# Altium schematic symbol library PCB_Project_SCHparts_2.SchLib: 9 symbols
Pins are listed as number, name and electrical type; pins without a type are passive.

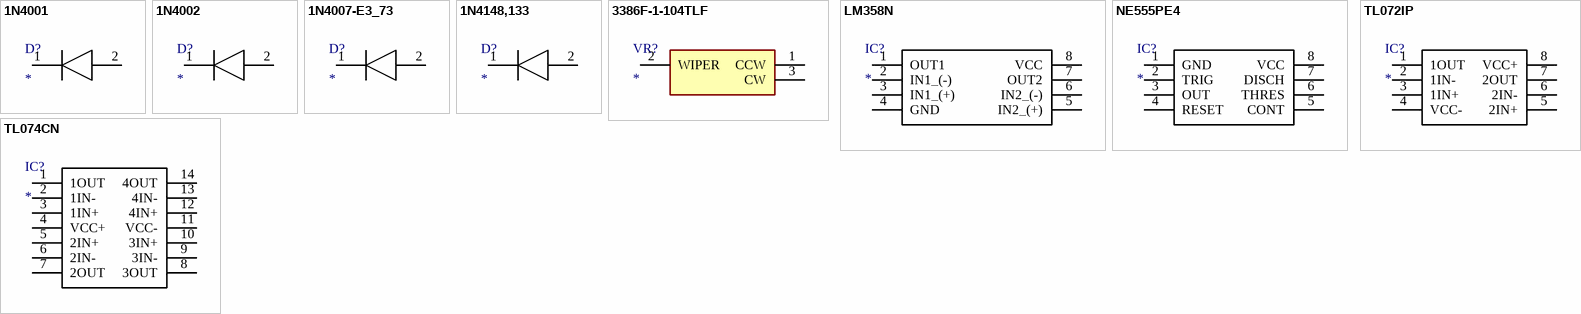
[diagram p0: symbols 1N4001 to TL074CN]

## 1N4001
designator D?
Diode; Manufacturer_Name: Vishay; Manufacturer_Part_Number: 1N4001; Datasheet Link: https://www.vishay.com/docs/88503/1n4001.pdf
footprint DIOAD1405W86L465D235
pins: 1 K, 2 A

## 1N4002
designator D?
Diode; Manufacturer_Name: DC COMPONENTS CO.; Manufacturer_Part_Number: 1N4002; Datasheet Link: https://www.tme.eu/Document/b9a3e8c499478bdb2cb9098c529c9361/1N4001_ser.pdf
footprint DIOAD1410W80L470D235
pins: 1 K, 2 A

## 1N4007-E3_73
designator D?
Diode; Manufacturer_Name: Vishay; Manufacturer_Part_Number: 1N4007-E3/73; Datasheet Link: https://mouser.componentsearchengine.com/Datasheets/2/1N4007-E3_73.pdf; Mouser Part Number: 625-1N4007-E3/73; Mouser Price/Stock: https://www.mouser.co.uk/ProductDetail/Vishay-General-Semiconductor/1N4007-E3-73?qs=N4vtoAxH%2FSqT3Ng3e4K0Gw%3D%3D; Arrow Part Number: 1N4007-E3/73; Arrow Price/Stock: https://www.arrow.com/en/products/1n4007-e373/vishay?region=europe
footprint DIOAD1405W86L465D235
pins: 1 K, 2 A

## 1N4148,133
designator D?
Diode; Manufacturer_Name: Nexperia; Manufacturer_Part_Number: 1N4148,133; Datasheet Link: https://assets.nexperia.com/documents/data-sheet/1N4148_1N4448.pdf; Mouser Part Number: 771-1N4148,133; Mouser Price/Stock: https://www.mouser.co.uk/ProductDetail/Nexperia/1N4148133?qs=elmhQ6eFu7hy8ApvpFxPZg%3D%3D; Arrow Part Number: 1N4148,133; Arrow Price/Stock: https://www.arrow.com/en/products/1n4148133/nxp-semiconductors
footprint DIOAD1165W56L425D185
pins: 1 K, 2 A

## 3386F-1-104TLF
designator VR?
Variable Resistor; Manufacturer_Name: Bourns; Manufacturer_Part_Number: 3386F-1-104TLF; Datasheet Link: https://www.bourns.com/docs/Product-Datasheets/3386.pdf; Height: 5.08mm; Mouser Part Number: 652-3386F-1-104TLF; Mouser Price/Stock: https://www.mouser.co.uk/ProductDetail/Bourns/3386F-1-104TLF?qs=jh2Y1wKDsmjfFzCYrNL%2FAQ%3D%3D; Arrow Part Number: 3386F-1-104TLF; Arrow Price/Stock: https://www.arrow.com/en/products/3386f-1-104tlf/bourns?region=nac
footprint 3386F1104TLF
pins: 1 CCW, 2 WIPER, 3 CW

## LM358N
designator IC?
Integrated Circuit; Manufacturer_Name: Texas Instruments; Manufacturer_Part_Number: LM358N; Datasheet Link: https://componentsearchengine.com/Datasheets/5/LM358N.pdf; Height: 3.93mm; Mouser Part Number: 926-LM358N; Mouser Price/Stock: https://www.mouser.co.uk/ProductDetail/Texas-Instruments/LM358N?qs=QbsRYf82W3EG2VDUre1RfQ%3D%3D
footprint DIP762W56P254L960H393Q8N
pins: 1 OUT1, 2 IN1_(-), 3 IN1_(+), 4 GND, 5 IN2_(+), 6 IN2_(-), 7 OUT2, 8 VCC

## NE555PE4
designator IC?
Integrated Circuit; Manufacturer_Name: Texas Instruments; Manufacturer_Part_Number: NE555PE4; Description: xx555 Precision Timers; Datasheet Link: http://www.ti.com/lit/ds/symlink/ne555.pdf; Height: 5.08mm; Mouser Part Number: 595-NE555PE4; Mouser Price/Stock: https://www.mouser.co.uk/ProductDetail/Texas-Instruments/NE555PE4?qs=rLYyFdxB%2FmpV6UJXAtWXuA%3D%3D; Arrow Part Number: NE555PE4; Arrow Price/Stock: https://www.arrow.com/en/products/ne555pe4/texas-instruments?region=nac
footprint DIP794W53P254L959H508Q8N
pins: 1 GND, 2 TRIG, 3 OUT, 4 RESET, 5 CONT, 6 THRES, 7 DISCH, 8 VCC

## TL072IP
designator IC?
Integrated Circuit; Manufacturer_Name: Texas Instruments; Manufacturer_Part_Number: TL072IP; Datasheet Link: http://www.ti.com/lit/ds/symlink/tl071a.pdf; Height: 5.08mm; Mouser Part Number: 595-TL072IP; Mouser Price/Stock: https://www.mouser.co.uk/ProductDetail/Texas-Instruments/TL072IP?qs=5BZzbFV4k2v7IBrcArRPQw%3D%3D; Arrow Part Number: TL072IP; Arrow Price/Stock: https://www.arrow.com/en/products/tl072ip/texas-instruments
footprint DIP794W53P254L959H508Q8N
pins: 1 1OUT, 2 1IN-, 3 1IN+, 4 VCC-, 5 2IN+, 6 2IN-, 7 2OUT, 8 VCC+

## TL074CN
designator IC?
Integrated Circuit; Manufacturer_Name: TEXAS; Manufacturer_Part_Number: TL074CN; Datasheet Link: https://www.ti.com/lit/ds/symlink/tl071h.pdf?HQS=dis-mous-null-mousermode-dsf-pf-null-wwe; Height: 5.08mm; Mouser Part Number: 511-TL074CN; Mouser Price/Stock: https://www.mouser.co.uk/ProductDetail/STMicroelectronics/TL074CN?qs=46HR8ipXVSu5lerO3SL9VA%3D%3D
footprint DIP794W53P254L1930H508Q14N
pins: 1 1OUT, 2 1IN-, 3 1IN+, 4 VCC+, 5 2IN+, 6 2IN-, 7 2OUT, 8 3OUT, 9 3IN-, 10 3IN+, 11 VCC-, 12 4IN+, 13 4IN-, 14 4OUT